# Altium schematic symbol library Fiducial Mark.Schlib: 1 symbol
Pins are listed as number, name and electrical type; pins without a type are passive.

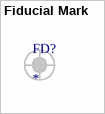
[diagram p0: symbol Fiducial Mark]

## Fiducial Mark
designator FD?  (no BOM)
Fiducial Mark